# Altium integrated library Analog Devices Data Converters Analog-to-Digital Converters.IntLib: 2400 symbols (part 232 of 338)
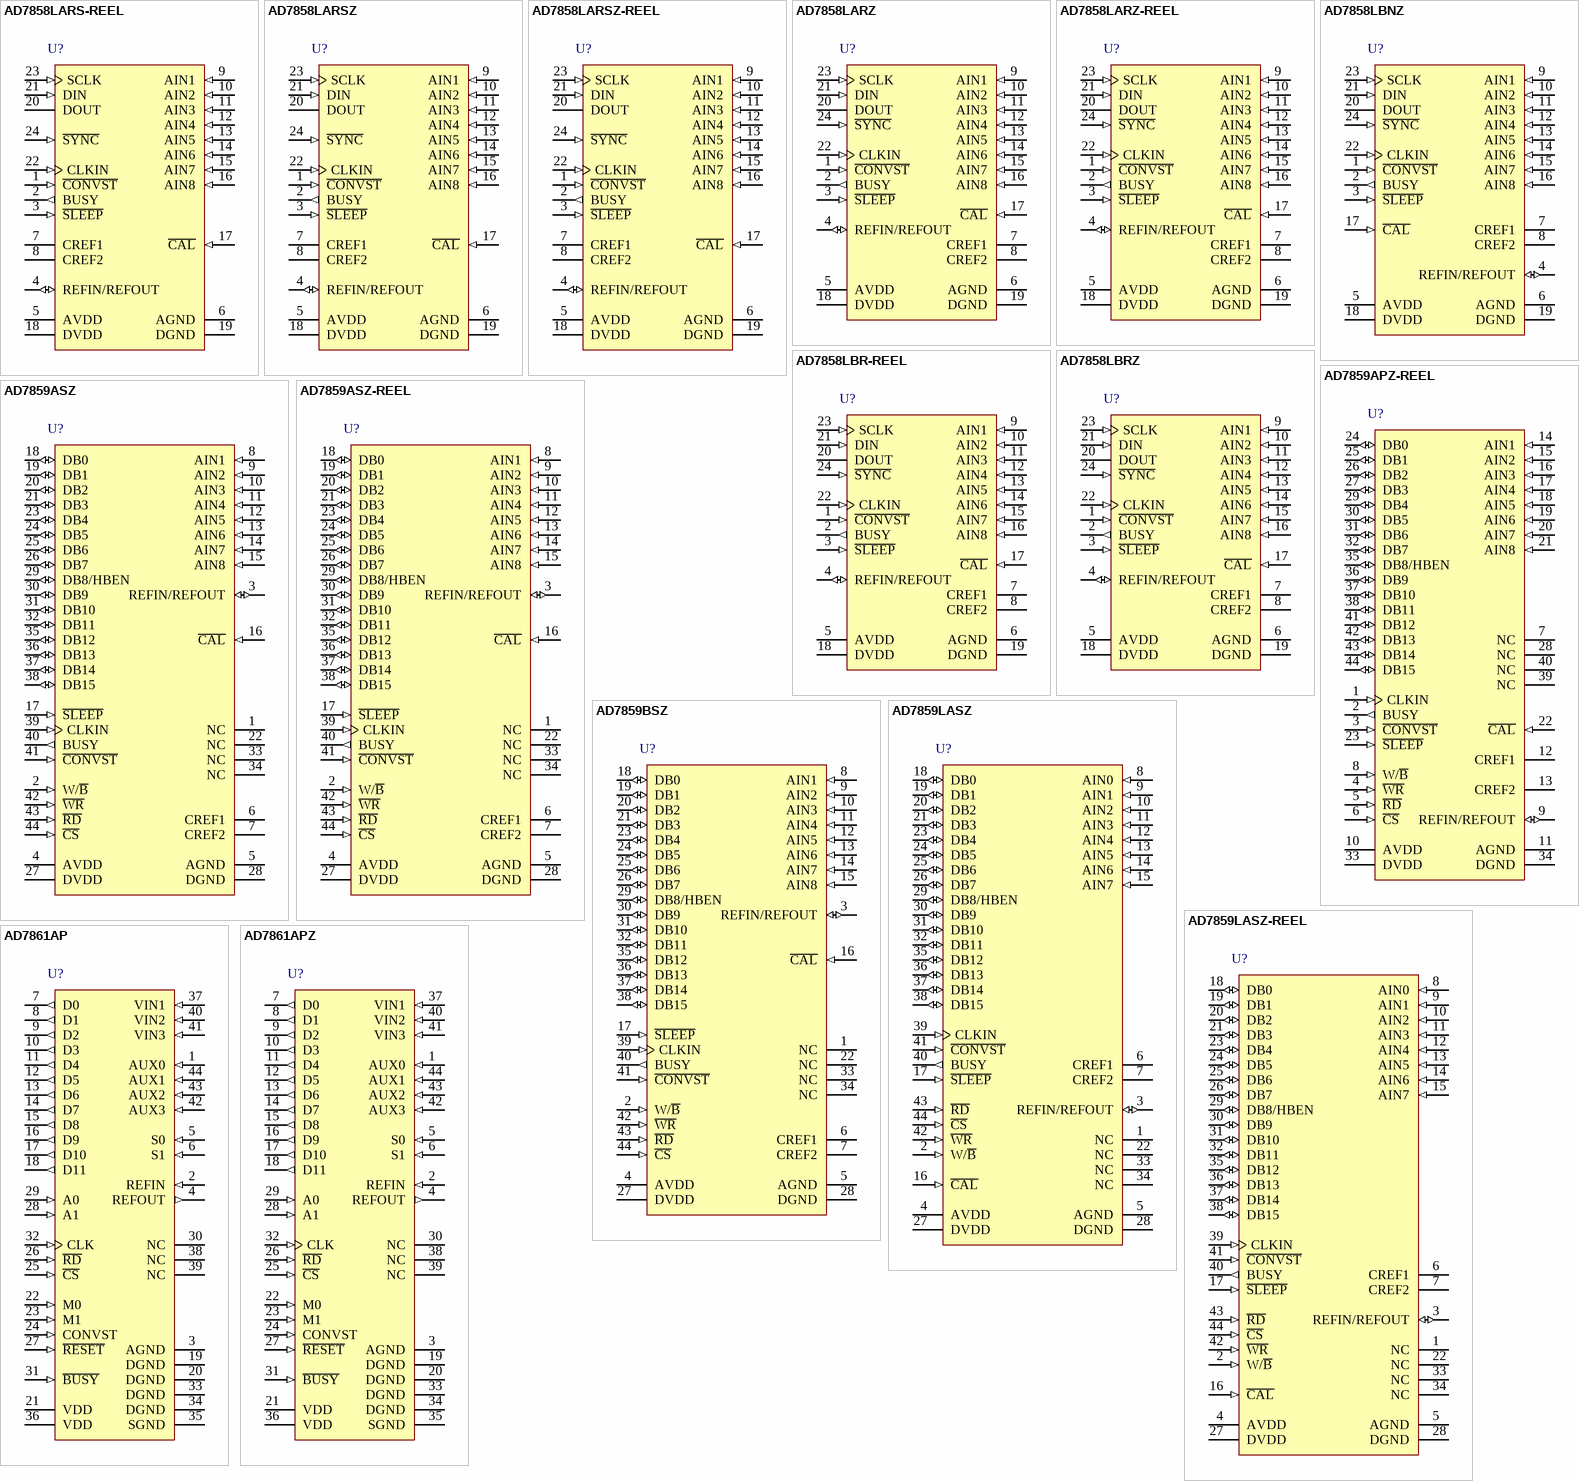
[diagram p381: symbols AD7858LARS-REEL to AD7861APZ]

## AD7861APZ
designator U?
7 Channel 11-Bit Analog-to-Digital Converter with Parallel Interface, Simultaneous Sampling, 28.6KSPS, -40 to +85 degC, P-44A, Pb-Free, Tube; Part Number: AD7861; Manufacturer: Analog Devices; Resolution (Bits): 11; Channels: 7; Throughput Rate (SPS): 28.6K; Interface: Par; DatasheetVersion: Rev.B; PackageVersion: 2003; PackageReference: P-44A; PackageDescription: 44-Lead Plastic Leaded Chip Carrier [PLCC]; RoHS: Y; Packing: Tube; Mounting Technology: Surface Mount; Code_JEDEC: MO-047-AC; Code_IPC: PLCC-44; ComponentLink1Description: Manufacturer URL; ComponentLink1URL: http://www.analog.com/en/index.html; ComponentLink2Description: Datasheet; ComponentLink2URL: http://www.analog.com/static/imported-files/data_sheets/AD7861.pdf; ComponentLink3Description: Package Specification; ComponentLink3URL: http://www.analog.com/static/imported-files/packages/533756178731793364534243243792136664964P44A.pdf; ComponentLink4Description: Product URL; ComponentLink4URL: http://www.analog.com/en/analog-to-digital-converters/ad-converters/ad7861/products/product.html
footprint P-44A_N (Leaded Chip Carrier, 44-Leads, Body 16.6x16.6mm, Pitch 1.27mm, IPC Medium Density)
footprint P-44A_L (Leaded Chip Carrier, 44-Leads, Body 16.6x16.6mm, Pitch 1.27mm, IPC High Density)
footprint P-44A_M (Leaded Chip Carrier, 44-Leads, Body 16.6x16.6mm, Pitch 1.27mm, IPC Low Density)
pins: 1 AUX0 (in) "Auxiliary Input 0", 2 REFIN (in) "Analog Reference Input", 3 AGND (power) "Analog Ground", 4 REFOUT (out) "Internal 2.5 Analog Reference", 5 S0 (in) "Aux Channel Select 0", 6 S1 (in) "Aux Channel Select 1", 7 D0 (out) "Data Bit 0 LSB (Tied Low)", 8 D1 (out) "Data Bit 1", 9 D2 (out) "Data Bit 2", 10 D3 (out) "Data Bit 3", 11 D4 (out) "Data Bit 4", 12 D5 (out) "Data Bit 5", 13 D6 (out) "Data Bit 6", 14 D7 (out) "Data Bit 7", 15 D8 (out) "Data Bit 8", 16 D9 (out) "Data Bit 9", 17 D10 (out) "Data Bit 10", 18 D11 (out) "Data Bit 11, MSB", 19 DGND (power) "Logic Ground", 20 DGND (power) "Logic Ground", 21 VDD (power) "+5 V Digital Supply", 22 M0 (in) "Conversion Mode Select 0", 23 M1 (in) "Conversion Mode Select 1", 24 CONVST (in) "A/D Conversion Start", 25 ~{CS} (in) "Chip Select", 26 ~{RD} (in) "Read Input", 27 ~{RESET} (in) "Chip Reset", 28 A1 (in) "Register Address Select 1", 29 A0 (in) "Register Address Select 0", 30 NC "No Connect", 31 ~{BUSY} (in) "Busy, Conversion in Process", 32 CLK (in) "External Clock Input 6.25 MHz-12.5 MHz", 33 DGND (power) "Logic Ground", 34 DGND (power) "Logic Ground", 35 SGND (power) "Signal Ground", 36 VDD (power) "+5 V Analog Supply", 37 VIN1 (in) "Analog Input 1", 38 NC "No Connect", 39 NC "No Connect", 40 VIN2 (in) "Analog Input 2", 41 VIN3 (in) "Analog Input 3", 42 AUX3 (in) "Auxiliary Input 3", 43 AUX2 (in) "Auxiliary Input 2", 44 AUX1 (in) "Auxiliary Input 1"

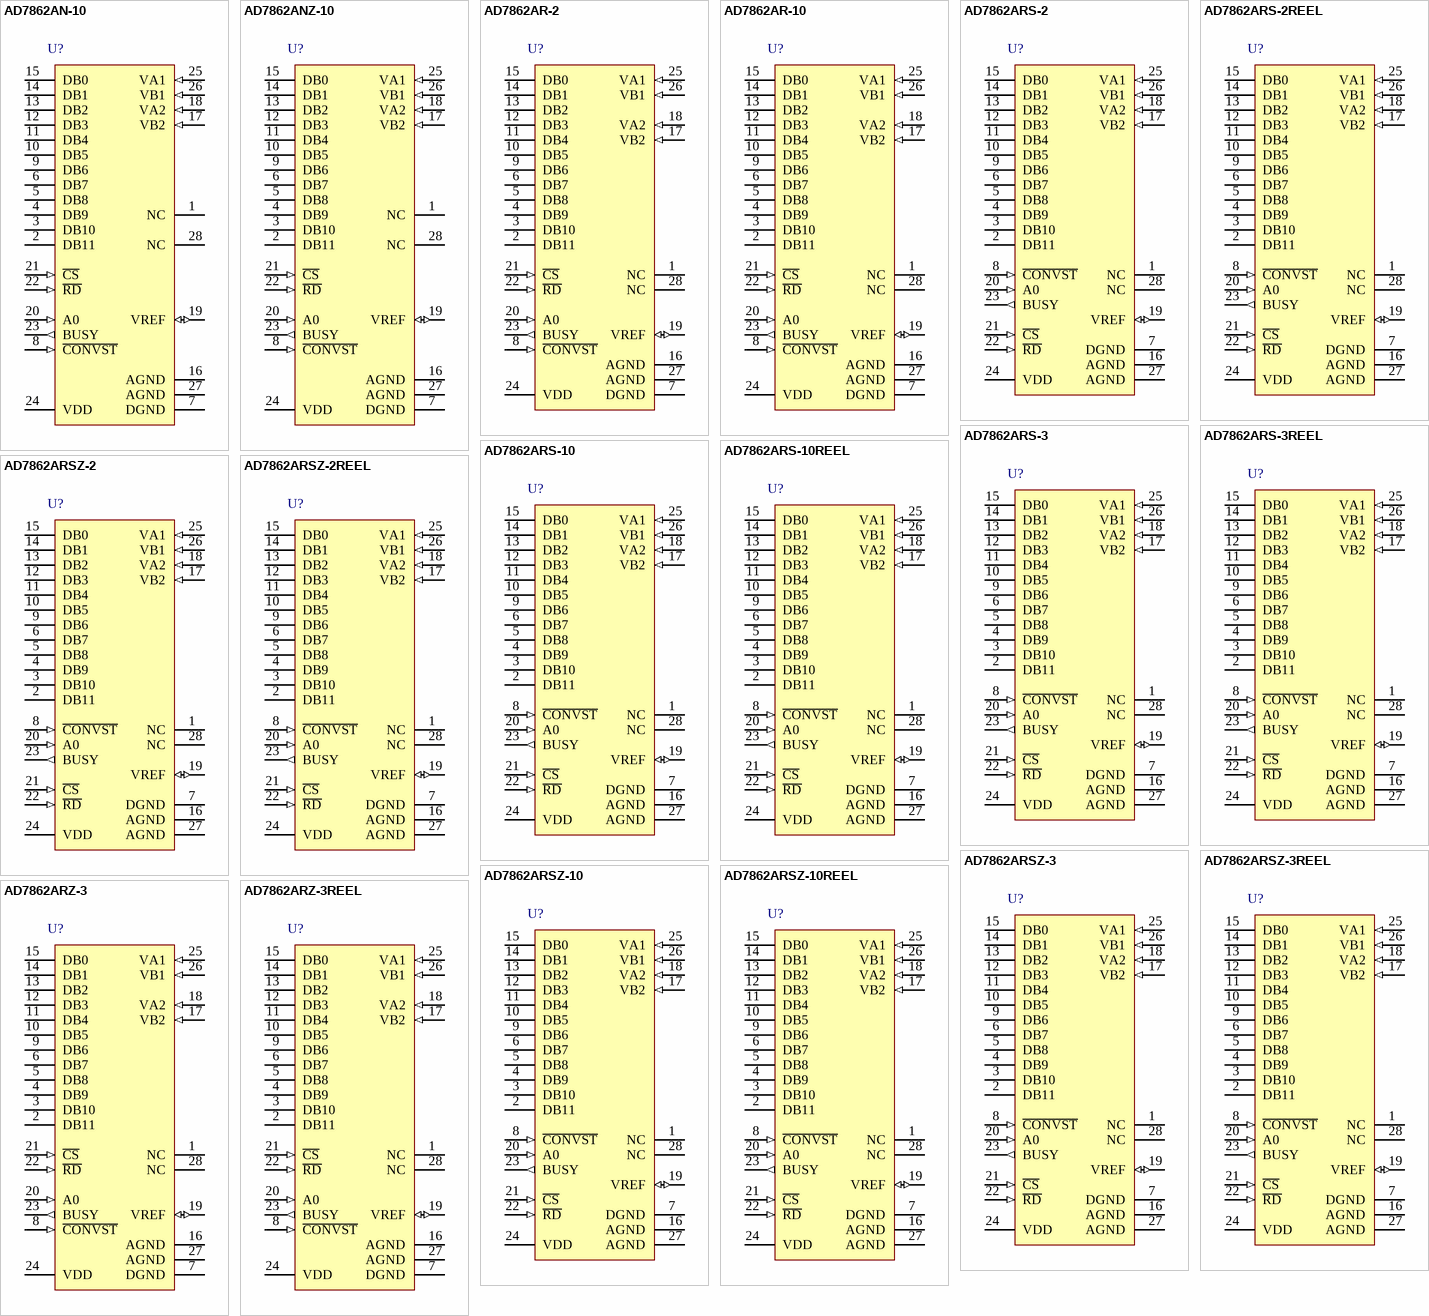
[diagram p71: symbols AD7862AN-10 to AD7862ARZ-3REEL]

## AD7862AN-10
designator U?
Quad 12-Bit Analog-to-Digital Converter with Parallel Interface, Simultaneous Sampling, 250KSPS, -40 to +85 degC, N-28-2, Tube; Part Number: AD7862; Manufacturer: Analog Devices; Resolution (Bits): 12; Channels: 4; Throughput Rate (SPS): 250K; Interface: Par; DatasheetVersion: Rev.0; PackageVersion: 071006-A; PackageReference: N-28-2; PackageDescription: 28-Lead Plastic Dual In-Line Package [PDIP]; RoHS: N; Packing: Tube; Mounting Technology: Through-hole; Code_JEDEC: MS-011; ComponentLink1Description: Manufacturer URL; ComponentLink1URL: http://www.analog.com/en/index.html; ComponentLink2Description: Datasheet; ComponentLink2URL: http://www.analog.com/static/imported-files/data_sheets/AD7862.pdf; ComponentLink3Description: Package Specification; ComponentLink3URL: http://www.analog.com/static/imported-files/packages/50849324123784N_28_2.pdf; ComponentLink4Description: Product URL; ComponentLink4URL: http://www.analog.com/en/analog-to-digital-converters/ad-converters/ad7862/products/product.html
footprint N-28-2 (DIP, 28-Leads, Row Spacing 15.55mm, Pitch 2.54mm, Body 37.4x13.5mm)
pins: 1 NC "No Connect", 2 DB11 (hiz) "Data Bit 11 (MSB). Three-state TTL output. Output coding is twos complement for the AD7862-10 and AD7862-3. Output coding is straight (natural) binary for the AD7862-2.", 3 DB10 (hiz) "Data Bit 10. Three-state TTL outputs.", 4 DB9 (hiz) "Data Bit 9. Three-state TTL outputs.", 5 DB8 (hiz) "Data Bit 8. Three-state TTL outputs.", 6 DB7 (hiz) "Data Bit 7. Three-state TTL outputs.", 7 DGND (power) "Digital Ground. Ground reference for digital circuitry.", 8 ~{CONVST} (in) "Convert Start Input. Logic Input. A high to low transition on this input puts both track/holds into their hold mode and starts conversion on both channels.", 9 DB6 (hiz) "Data Bit 6. Three-state TTL outputs.", 10 DB5 (hiz) "Data Bit 5. Three-state TTL outputs.", 11 DB4 (hiz) "Data Bit 4. Three-state TTL outputs.", 12 DB3 (hiz) "Data Bit 3. Three-state TTL outputs.", 13 DB2 (hiz) "Data Bit 2. Three-state TTL outputs.", 14 DB1 (hiz) "Data Bit 1. Three-state TTL outputs.", 15 DB0 (hiz) "Data Bit 0. Three-state TTL outputs.", 16 AGND (power) "Analog Ground. Ground reference for mux, track/hold, reference and DAC circuitry.", 17 VB2 (in) "Input Number 2 of Channel B. Analog Input voltage ranges of +/-10 V (AD7862-10), +/-2.5 V (AD7862-3) and 0 V-2.5 V (AD7862-2).", 18 VA2 (in) "Input Number 2 of Channel A. Analog Input voltage ranges of +/-10 V (AD7862-10), +/-2.5 V (AD7862-3) and 0 V-2.5 V (AD7862-2).", 19 VREF (io) "Reference Input/Output. This pin is connected to the internal reference through a series resistor and is the output reference source for the analog-to-digital converter. The nominal reference voltage is 2.5 V, and this (See Datasheet)", 20 A0 (in) "Multiplexer Select. This input is used in conjunction with R\D\ and C\S\ low to enable the data outputs. With A0 logic low, one read after a conversion will read the data from each of the ADCs in the sequence, VA1, VA2, and (See Datasheet)", 21 ~{CS} (in) "Chip Select Input. Active low logic input. The device is selected when this input is active.", 22 ~{RD} (in) "Read Input. Active low logic input. This input is used in conjunction with A0 and C\S\ low to enable the data outputs. With A0 logic low, one read after a conversion will read the data from each of the ADCs in the sequence, (See Datasheet)", 23 BUSY (out) "Busy Output. The busy output is triggered high by the falling edge of C\O\N\V\S\T\ and remains high until conversion is completed.", 24 VDD (power) "Analog and Digital Positive Supply Voltage, +5.0 V +/- 5%.", 25 VA1 (in) "Input Number 1 of Channel A. Analog Input voltage ranges of +/-10 V (AD7862-10), +/-2.5 V (AD7862-3) and 0 V-2.5 V (AD7862-2).", 26 VB1 (in) "Input Number 1 of Channel B. Analog Input voltage ranges of +/-10 V (AD7862-10), +/-2.5 V (AD7862-3) and 0 V-2.5 V (AD7862-2).", 27 AGND (power) "Analog Ground. Ground reference for mux, track/hold, reference and DAC circuitry.", 28 NC "No Connect"